# EAGLE library part 210-A-126-SMD (library untitled)
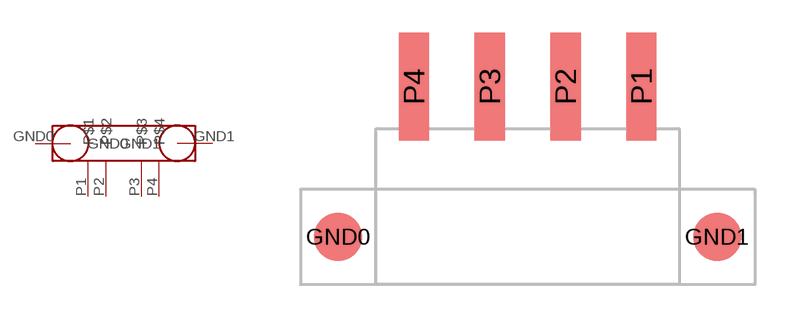
[diagram p1: symbol with the pads of 210-A-126-SMD-4; footprint 210-A-126-SMD-4]

Designator prefix -

## 210-A-126-SMD  [210-A-126-SMD-4]
GND0  GND0
GND1  GND1
P1  P$1
P2  P$2
P3  P$3
P4  P$4

## Footprint 210-A-126-SMD-4 (pad centres in mm)
smd 2.25 x 2.25: GND0 -8.75,0; GND1 8.75,0
smd 1.4 x 5: P1 5.25,6.95; P2 1.75,6.95; P3 -1.75,6.95; P4 -5.25,6.95